# EAGLE library part 20021311-00012T4LF (library Amphenol)
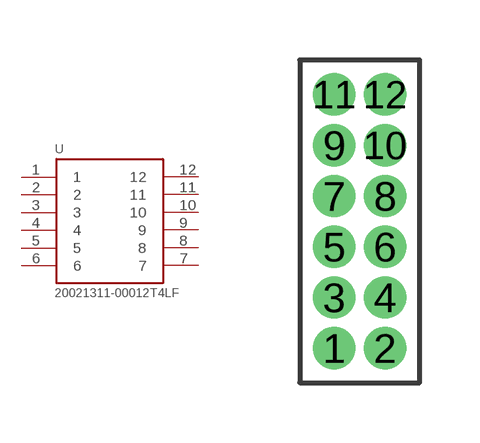
[diagram p3: symbol with the pads of HEADER_1.27MM_2X6; footprint HEADER_1.27MM_2X6]

Designator prefix -

## 20021311-00012T4LF  [HEADER_1.27MM_2X6]
1  1
2  2
3  3
4  4
5  5
6  6
7  7
8  8
9  9
10  10
11  11
12  12

## Footprint HEADER_1.27MM_2X6 (pad centres in mm)
drill 0.55 pad 0.95: 1 0.865,0.865; 2 2.135,0.865; 3 0.865,2.135; 4 2.135,2.135; 5 0.865,3.405; 6 2.135,3.405; 7 0.865,4.675; 8 2.135,4.675; 9 0.865,5.945; 10 2.135,5.945; 11 0.865,7.215; 12 2.135,7.215